# EAGLE library part SN65HVD230QDG4Q1 (library graftel-internal-ic)
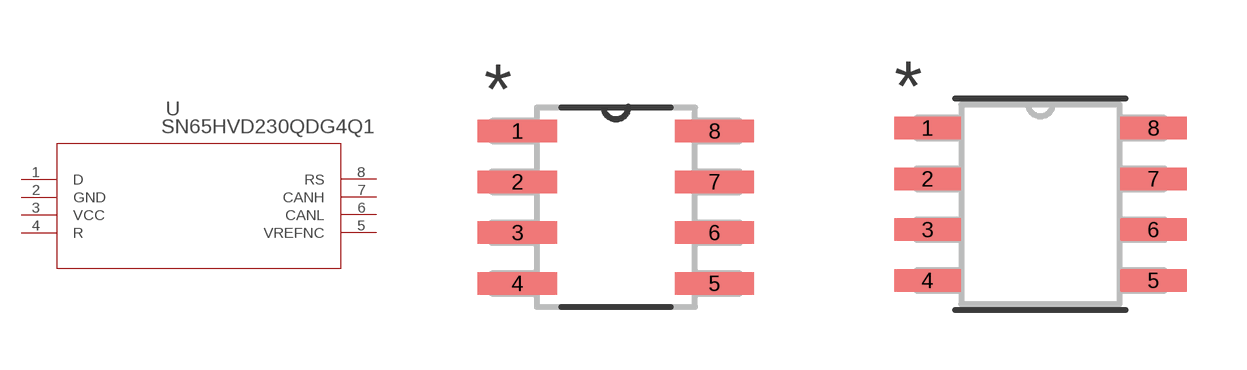
[diagram p83: symbol with the pads of D8; footprints D8, D8-M]

Designator prefix U

## SN65HVD230QDG4Q1 (DATASHEET_URL: http://www.ti.com/lit/gpn/SN65HVD230Q-Q1; DESCRIPTION: Automotive Catalog 3.3-V CAN Transceiver; FAMILY_NAME: CAN; GENERIC_PART_NUMBER: SN65HVD230Q-Q1; INDUSTRY_STD_PKG_TYPE: SOIC; MANUFACTURER: Texas Instruments; MANUFACTURER_PART_NUMBER: SN65HVD230QDG4Q1; PACKAGE_DESIGNATOR: D; PIN_COUNT: 8; VENDOR: Texas Instruments)  [D8]
1  D  in
2  GND  pwr
3  VCC  pwr
4  R  in
5  VREFNC  pwr
6  CANL  out
7  CANH  out
8  RS  in

## SN65HVD230QDG4Q1D8-M (DATASHEET_URL: http://www.ti.com/lit/gpn/SN65HVD230Q-Q1; DESCRIPTION: Automotive Catalog 3.3-V CAN Transceiver; FAMILY_NAME: CAN; GENERIC_PART_NUMBER: SN65HVD230Q-Q1; INDUSTRY_STD_PKG_TYPE: SOIC; MANUFACTURER: Texas Instruments; MANUFACTURER_PART_NUMBER: SN65HVD230QDG4Q1; PACKAGE_DESIGNATOR: D; PIN_COUNT: 8; VENDOR: Texas Instruments)  [D8-M]
Pads as for D8

## SN65HVD230QDG4Q1D8-L (DATASHEET_URL: http://www.ti.com/lit/gpn/SN65HVD230Q-Q1; DESCRIPTION: Automotive Catalog 3.3-V CAN Transceiver; FAMILY_NAME: CAN; GENERIC_PART_NUMBER: SN65HVD230Q-Q1; INDUSTRY_STD_PKG_TYPE: SOIC; MANUFACTURER: Texas Instruments; MANUFACTURER_PART_NUMBER: SN65HVD230QDG4Q1; PACKAGE_DESIGNATOR: D; PIN_COUNT: 8; VENDOR: Texas Instruments)  [D8-L]
Pads as for D8

## Footprint D8 (pad centres in mm)
smd 1.981 x 0.559: 1 -2.464,1.905; 2 -2.464,0.635; 3 -2.464,-0.635; 4 -2.464,-1.905; 5 2.464,-1.905; 6 2.464,-0.635; 7 2.464,0.635; 8 2.464,1.905

## Footprint D8-M (pad centres in mm)
smd 1.664 x 0.559: 1 -2.826,1.905; 2 -2.826,0.635; 3 -2.826,-0.635; 4 -2.826,-1.905; 5 2.826,-1.905; 6 2.826,-0.635; 7 2.826,0.635; 8 2.826,1.905

## Footprint D8-L (pad centres in mm)
smd 1.257 x 0.508: 1 -2.623,1.905; 2 -2.623,0.635; 3 -2.623,-0.635; 4 -2.623,-1.905; 5 2.623,-1.905; 6 2.623,-0.635; 7 2.623,0.635; 8 2.623,1.905